# EAGLE library part BOB_XC95144XL_SMALL (library CEDT_JANUARY_2015_v6)
XC95144xl TQFP100 small BOB package
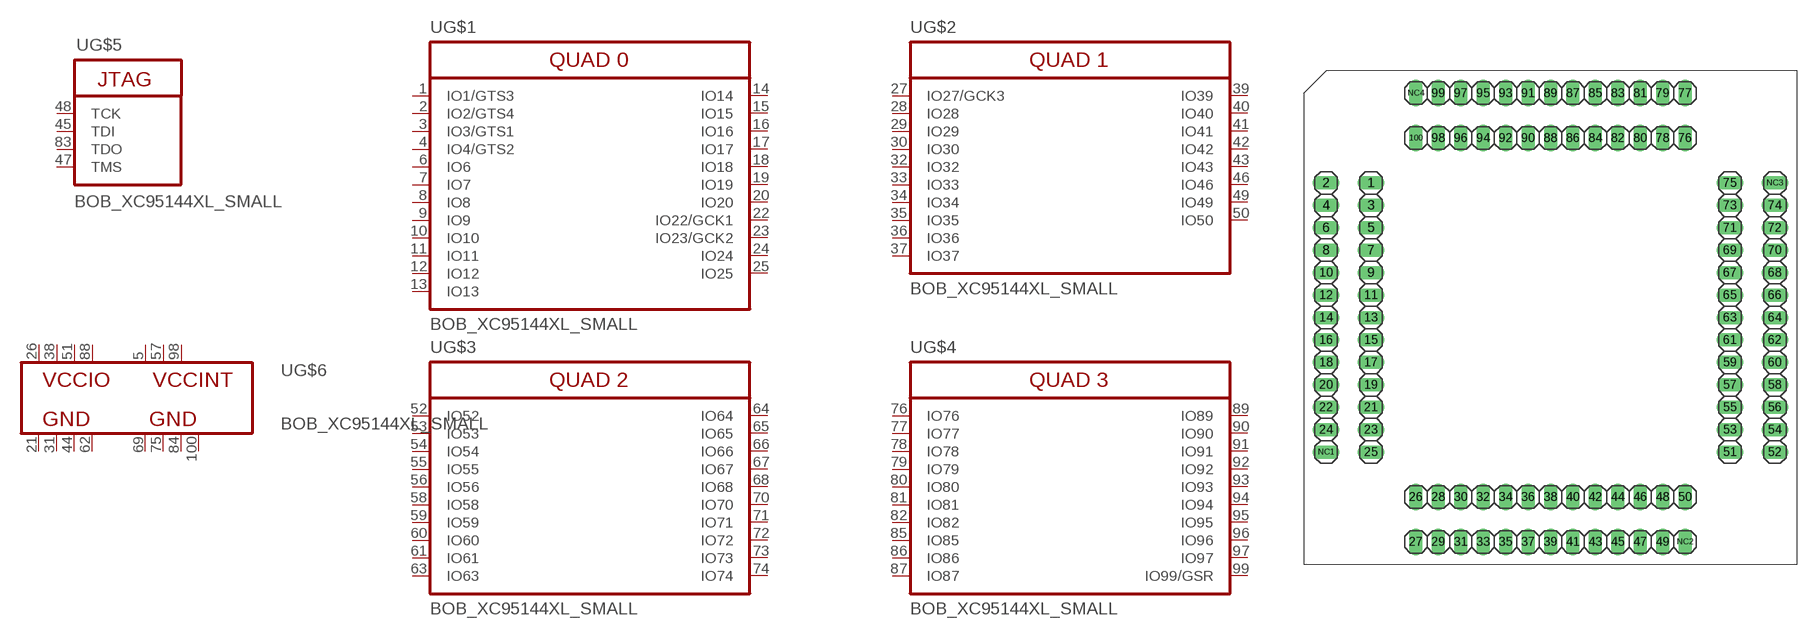
[diagram p75: symbol with the pads of XC95144XL_TQ100_SMALLBOB; footprint XC95144XL_TQ100_SMALLBOB]

Designator prefix -; gates G$1=XC95144XL_TQ100_QUAD0 G$2=XC95144XL_TQ100_QUAD1 G$3=XC95144XL_TQ100_QUAD2 G$4=XC95144XL_TQ100_QUAD3 G$5=XC95144XL_TQ100_JTAG G$6=XC95144XL_TQ100_POWER

## BOB_XC95144XL_SMALL  [XC95144XL_TQ100_SMALLBOB]
1  G$1:IO1/GTS3  pas
2  G$1:IO2/GTS4  pas
3  G$1:IO3/GTS1  pas
4  G$1:IO4/GTS2  pas
5  G$6:VCCINT  pas
6  G$1:IO6  pas
7  G$1:IO7  pas
8  G$1:IO8  pas
9  G$1:IO9  pas
10  G$1:IO10  pas
11  G$1:IO11  pas
12  G$1:IO12  pas
13  G$1:IO13  pas
14  G$1:IO14  pas
15  G$1:IO15  pas
16  G$1:IO16  pas
17  G$1:IO17  pas
18  G$1:IO18  pas
19  G$1:IO19  pas
20  G$1:IO20  pas
21  G$6:GND  pas
22  G$1:IO22/GCK1  pas
23  G$1:IO23/GCK2  pas
24  G$1:IO24  pas
25  G$1:IO25  pas
26  G$6:VCCIO  pas
27  G$2:IO27/GCK3  pas
28  G$2:IO28  pas
29  G$2:IO29  pas
30  G$2:IO30  pas
31  G$6:GND  pas
32  G$2:IO32  pas
33  G$2:IO33  pas
34  G$2:IO34  pas
35  G$2:IO35  pas
36  G$2:IO36  pas
37  G$2:IO37  pas
38  G$6:VCCIO  pas
39  G$2:IO39  pas
40  G$2:IO40  pas
41  G$2:IO41  pas
42  G$2:IO42  pas
43  G$2:IO43  pas
44  G$6:GND  pas
45  G$5:TDI  pas
46  G$2:IO46  pas
47  G$5:TMS  pas
48  G$5:TCK  pas
49  G$2:IO49  pas
50  G$2:IO50  pas
51  G$6:VCCIO  pas
52  G$3:IO52  pas
53  G$3:IO53  pas
54  G$3:IO54  pas
55  G$3:IO55  pas
56  G$3:IO56  pas
57  G$6:VCCINT  pas
58  G$3:IO58  pas
59  G$3:IO59  pas
60  G$3:IO60  pas
61  G$3:IO61  pas
62  G$6:GND  pas
63  G$3:IO63  pas
64  G$3:IO64  pas
65  G$3:IO65  pas
66  G$3:IO66  pas
67  G$3:IO67  pas
68  G$3:IO68  pas
69  G$6:GND  pas
70  G$3:IO70  pas
71  G$3:IO71  pas
72  G$3:IO72  pas
73  G$3:IO73  pas
74  G$3:IO74  pas
75  G$6:GND  pas
76  G$4:IO76  pas
77  G$4:IO77  pas
78  G$4:IO78  pas
79  G$4:IO79  pas
80  G$4:IO80  pas
81  G$4:IO81  pas
82  G$4:IO82  pas
83  G$5:TDO  pas
84  G$6:GND  pas
85  G$4:IO85  pas
86  G$4:IO86  pas
87  G$4:IO87  pas
88  G$6:VCCIO  pas
89  G$4:IO89  pas
90  G$4:IO90  pas
91  G$4:IO91  pas
92  G$4:IO92  pas
93  G$4:IO93  pas
94  G$4:IO94  pas
95  G$4:IO95  pas
96  G$4:IO96  pas
97  G$4:IO97  pas
98  G$6:VCCINT  pas
99  G$4:IO99/GSR  pas
100  G$6:GND  pas

## Footprint XC95144XL_TQ100_SMALLBOB (pad centres in mm)
drill 1.016 long: 1 -20.32,15.24; 2 -25.4,15.24; 3 -20.32,12.7; 4 -25.4,12.7; 5 -20.32,10.16; 6 -25.4,10.16; 7 -20.32,7.62; 8 -25.4,7.62; 9 -20.32,5.08; 10 -25.4,5.08; 11 -20.32,2.54; 12 -25.4,2.54; 13 -20.32,0; 14 -25.4,0; 15 -20.32,-2.54; 16 -25.4,-2.54; 17 -20.32,-5.08; 18 -25.4,-5.08; 19 -20.32,-7.62; 20 -25.4,-7.62; 21 -20.32,-10.16; 22 -25.4,-10.16; 23 -20.32,-12.7; 24 -25.4,-12.7; 25 -20.32,-15.24; 26 -15.24,-20.32; 27 -15.24,-25.4; 28 -12.7,-20.32; 29 -12.7,-25.4; 30 -10.16,-20.32; 31 -10.16,-25.4; 32 -7.62,-20.32; 33 -7.62,-25.4; 34 -5.08,-20.32; 35 -5.08,-25.4; 36 -2.54,-20.32; 37 -2.54,-25.4; 38 0,-20.32; 39 0,-25.4; 40 2.54,-20.32; 41 2.54,-25.4; 42 5.08,-20.32; 43 5.08,-25.4; 44 7.62,-20.32; 45 7.62,-25.4; 46 10.16,-20.32; 47 10.16,-25.4; 48 12.7,-20.32; 49 12.7,-25.4; 50 15.24,-20.32; 51 20.32,-15.24; 52 25.4,-15.24; 53 20.32,-12.7; 54 25.4,-12.7; 55 20.32,-10.16; 56 25.4,-10.16; 57 20.32,-7.62; 58 25.4,-7.62; 59 20.32,-5.08; 60 25.4,-5.08; 61 20.32,-2.54; 62 25.4,-2.54; 63 20.32,0; 64 25.4,0; 65 20.32,2.54; 66 25.4,2.54; 67 20.32,5.08; 68 25.4,5.08; 69 20.32,7.62; 70 25.4,7.62; 71 20.32,10.16; 72 25.4,10.16; 73 20.32,12.7; 74 25.4,12.7; 75 20.32,15.24; 76 15.24,20.32; 77 15.24,25.4; 78 12.7,20.32; 79 12.7,25.4; 80 10.16,20.32; 81 10.16,25.4; 82 7.62,20.32; 83 7.62,25.4; 84 5.08,20.32; 85 5.08,25.4; 86 2.54,20.32; 87 2.54,25.4; 88 0,20.32; 89 0,25.4; 90 -2.54,20.32; 91 -2.54,25.4; 92 -5.08,20.32; 93 -5.08,25.4; 94 -7.62,20.32; 95 -7.62,25.4; 96 -10.16,20.32; 97 -10.16,25.4; 98 -12.7,20.32; 99 -12.7,25.4; 100 -15.24,20.32; NC1 -25.4,-15.24; NC2 15.24,-25.4; NC3 25.4,15.24; NC4 -15.24,25.4